# Altium integrated library 6913211000xx.IntLib: 24 symbols
Pins are listed as number, name and electrical type; pins without a type are passive.

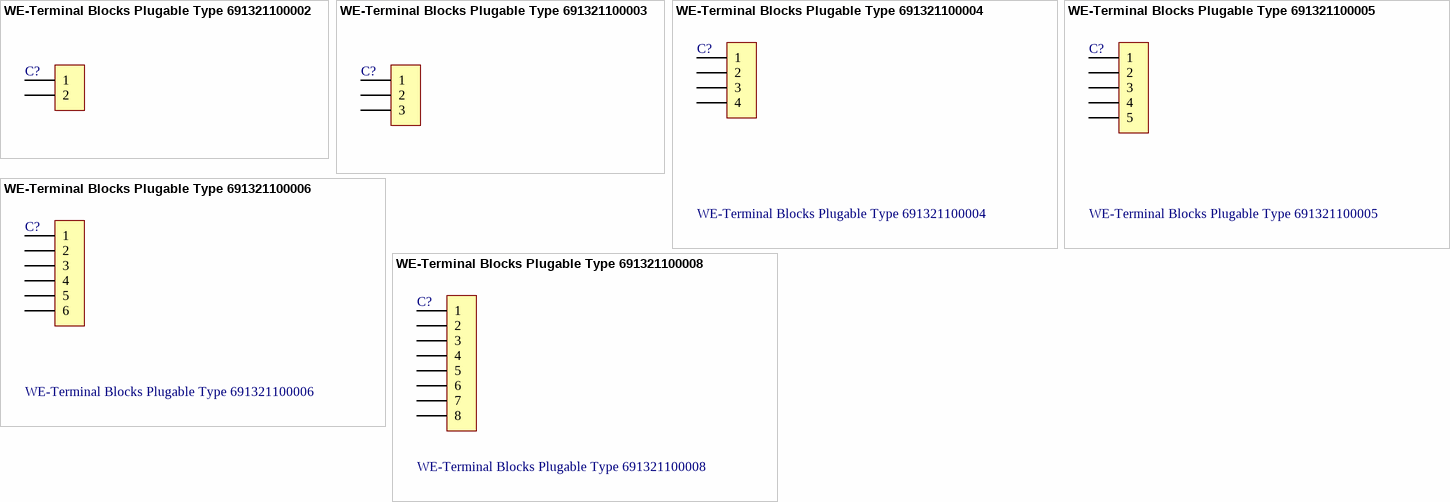
[diagram p0: symbols WE-Terminal Blocks Plugable Type 691321100002 to WE-Terminal Blocks Plugable Type 691321100008]

## WE-Terminal Blocks Plugable Type 691321100002
designator C?
WR-TBL Terminal block - serie 3211 - 3.50 mm; Manufacturer: Würth Elektronik eiSos GmbH; ComponentLink1 Description: Manufacturer; ComponentLink2 Description: Datasheet; NoPins: 2; Created Date: 9 December 2013; partNo: 691321100002; ComponentLink1URL: http://www.we-online.com; ComponentLink2URL: http://katalog.we-online.de/em/datasheet/6913211000xx.pdf; Created by: Karrer Zheng
footprint 691321100002 (3,50mm - PCB Vertical - 02p)
pins: 1, 2

## WE-Terminal Blocks Plugable Type 691321100003
designator C?
WR-TBL Terminal block - serie 3211 - 3.50 mm; Manufacturer: Würth Elektronik eiSos GmbH; ComponentLink1 Description: Manufacturer; ComponentLink2 Description: Datasheet; NoPins: 3; Created Date: 9 December 2013; partNo: 691321100003; ComponentLink1URL: http://www.we-online.com; ComponentLink2URL: http://katalog.we-online.de/em/datasheet/6913211000xx.pdf; Created by: Karrer Zheng
footprint 691321100003 (3,50mm - PCB Vertical - 03p)
pins: 1, 2, 3

## WE-Terminal Blocks Plugable Type 691321100004
designator C?
WR-TBL Terminal block - serie 3211 - 3.50 mm; Manufacturer: Würth Elektronik eiSos GmbH; ComponentLink1 Description: Manufacturer; ComponentLink2 Description: Datasheet; NoPins: 4; Created Date: 9 December 2013; partNo: 691321100004; ComponentLink1URL: http://www.we-online.com; ComponentLink2URL: http://katalog.we-online.de/em/datasheet/6913211000xx.pdf; Created by: Karrer Zheng
footprint 691321100004 (3,50mm - PCB Vertical - 04p)
pins: 1, 2, 3, 4

## WE-Terminal Blocks Plugable Type 691321100005
designator C?
WR-TBL Terminal block - serie 3211 - 3.50 mm; Manufacturer: Würth Elektronik eiSos GmbH; ComponentLink1 Description: Manufacturer; ComponentLink2 Description: Datasheet; NoPins: 5; Created Date: 9 December 2013; partNo: 691321100005; ComponentLink1URL: http://www.we-online.com; ComponentLink2URL: http://katalog.we-online.de/em/datasheet/6913211000xx.pdf; Created by: Karrer Zheng
footprint 691321100005 (3,50mm - PCB Vertical - 05p)
pins: 1, 2, 3, 4, 5

## WE-Terminal Blocks Plugable Type 691321100006
designator C?
WR-TBL Terminal block - serie 3211 - 3.50 mm; Manufacturer: Würth Elektronik eiSos GmbH; ComponentLink1 Description: Manufacturer; ComponentLink2 Description: Datasheet; NoPins: 6; Created Date: 9 December 2013; partNo: 691321100006; ComponentLink1URL: http://www.we-online.com; ComponentLink2URL: http://katalog.we-online.de/em/datasheet/6913211000xx.pdf; Created by: Karrer Zheng
footprint 691321100006 (3,50mm - PCB Vertical - 06p)
pins: 1, 2, 3, 4, 5, 6

## WE-Terminal Blocks Plugable Type 691321100008
designator C?
WR-TBL Terminal block - serie 3211 - 3.50 mm; Manufacturer: Würth Elektronik eiSos GmbH; ComponentLink1 Description: Manufacturer; ComponentLink2 Description: Datasheet; NoPins: 8; Created Date: 9 December 2013; partNo: 691321100008; ComponentLink1URL: http://www.we-online.com; ComponentLink2URL: http://katalog.we-online.de/em/datasheet/6913211000xx.pdf; Created by: Karrer Zheng
footprint 691321100008 (3,50mm - PCB Vertical - 08p)
pins: 1, 2, 3, 4, 5, 6, 7, 8


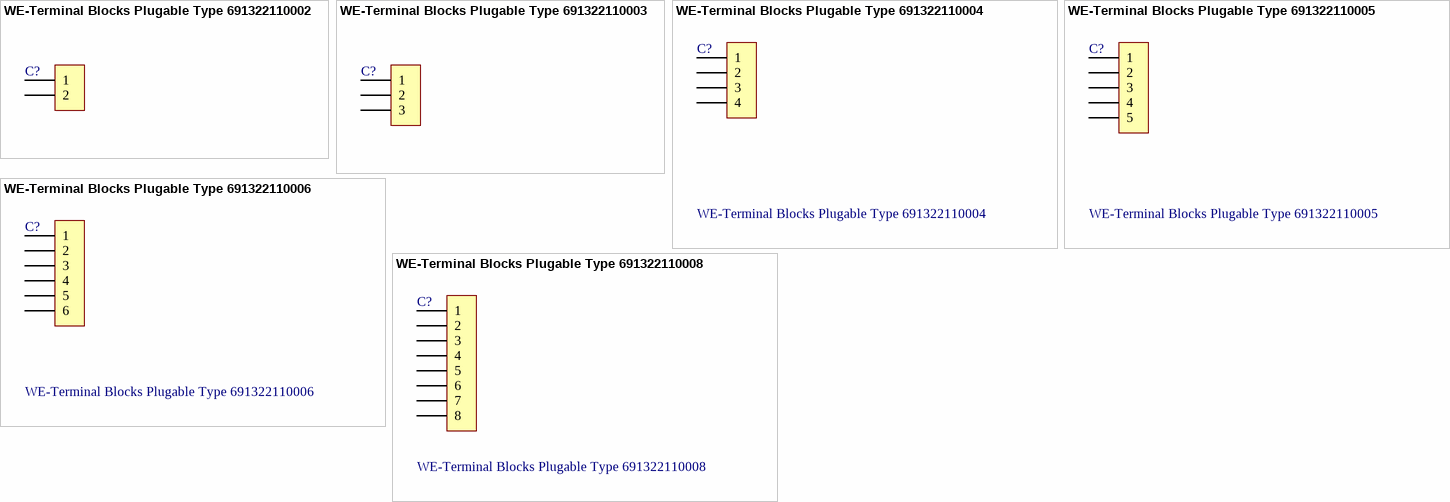
[diagram p1: symbols WE-Terminal Blocks Plugable Type 691322110002 to WE-Terminal Blocks Plugable Type 691322110008]

## WE-Terminal Blocks Plugable Type 691322110002
designator C?
WR-TBL Terminal block - serie 3221 - 3.50 mm; Manufacturer: Würth Elektronik eiSos GmbH; ComponentLink1 Description: Manufacturer; ComponentLink2 Description: Datasheet; NoPins: 2; Created Date: 9 December 2013; partNo: 691322110002; ComponentLink1URL: http://www.we-online.com; ComponentLink2URL: http://katalog.we-online.de/em/datasheet/6913221100xx.pdf; Created by: Karrer Zheng
footprint 691322110002 (3,50mm - PCB Horizontal - 02p)
pins: 1, 2

## WE-Terminal Blocks Plugable Type 691322110003
designator C?
WR-TBL Terminal block - serie 3221 - 3.50 mm; Manufacturer: Würth Elektronik eiSos GmbH; ComponentLink1 Description: Manufacturer; ComponentLink2 Description: Datasheet; NoPins: 3; Created Date: 9 December 2013; partNo: 691322110003; ComponentLink1URL: http://www.we-online.com; ComponentLink2URL: http://katalog.we-online.de/em/datasheet/6913221100xx.pdf; Created by: Karrer Zheng
footprint 691322110003 (3,50mm - PCB Horizontal - 03p)
pins: 1, 2, 3

## WE-Terminal Blocks Plugable Type 691322110004
designator C?
WR-TBL Terminal block - serie 3221 - 3.50 mm; Manufacturer: Würth Elektronik eiSos GmbH; ComponentLink1 Description: Manufacturer; ComponentLink2 Description: Datasheet; NoPins: 4; Created Date: 9 December 2013; partNo: 691322110004; ComponentLink1URL: http://www.we-online.com; ComponentLink2URL: http://katalog.we-online.de/em/datasheet/6913221100xx.pdf; Created by: Karrer Zheng
footprint 691322110004 (3,50mm - PCB Horizontal - 04p)
pins: 1, 2, 3, 4

## WE-Terminal Blocks Plugable Type 691322110005
designator C?
WR-TBL Terminal block - serie 3221 - 3.50 mm; Manufacturer: Würth Elektronik eiSos GmbH; ComponentLink1 Description: Manufacturer; ComponentLink2 Description: Datasheet; NoPins: 5; Created Date: 9 December 2013; partNo: 691322110005; ComponentLink1URL: http://www.we-online.com; ComponentLink2URL: http://katalog.we-online.de/em/datasheet/6913221100xx.pdf; Created by: Karrer Zheng
footprint 691322110005 (3,50mm - PCB Horizontal - 05p)
pins: 1, 2, 3, 4, 5

## WE-Terminal Blocks Plugable Type 691322110006
designator C?
WR-TBL Terminal block - serie 3221 - 3.50 mm; Manufacturer: Würth Elektronik eiSos GmbH; ComponentLink1 Description: Manufacturer; ComponentLink2 Description: Datasheet; NoPins: 6; Created Date: 9 December 2013; partNo: 691322110006; ComponentLink1URL: http://www.we-online.com; ComponentLink2URL: http://katalog.we-online.de/em/datasheet/6913221100xx.pdf; Created by: Karrer Zheng
footprint 691322110006 (3,50mm - PCB Horizontal - 06p)
pins: 1, 2, 3, 4, 5, 6

## WE-Terminal Blocks Plugable Type 691322110008
designator C?
WR-TBL Terminal block - serie 3221 - 3.50 mm; Manufacturer: Würth Elektronik eiSos GmbH; ComponentLink1 Description: Manufacturer; ComponentLink2 Description: Datasheet; NoPins: 8; Created Date: 9 December 2013; partNo: 691322110008; ComponentLink1URL: http://www.we-online.com; ComponentLink2URL: http://katalog.we-online.de/em/datasheet/6913221100xx.pdf; Created by: Karrer Zheng
footprint 691322110008 (3,50mm - PCB Horizontal - 08p)
pins: 1, 2, 3, 4, 5, 6, 7, 8


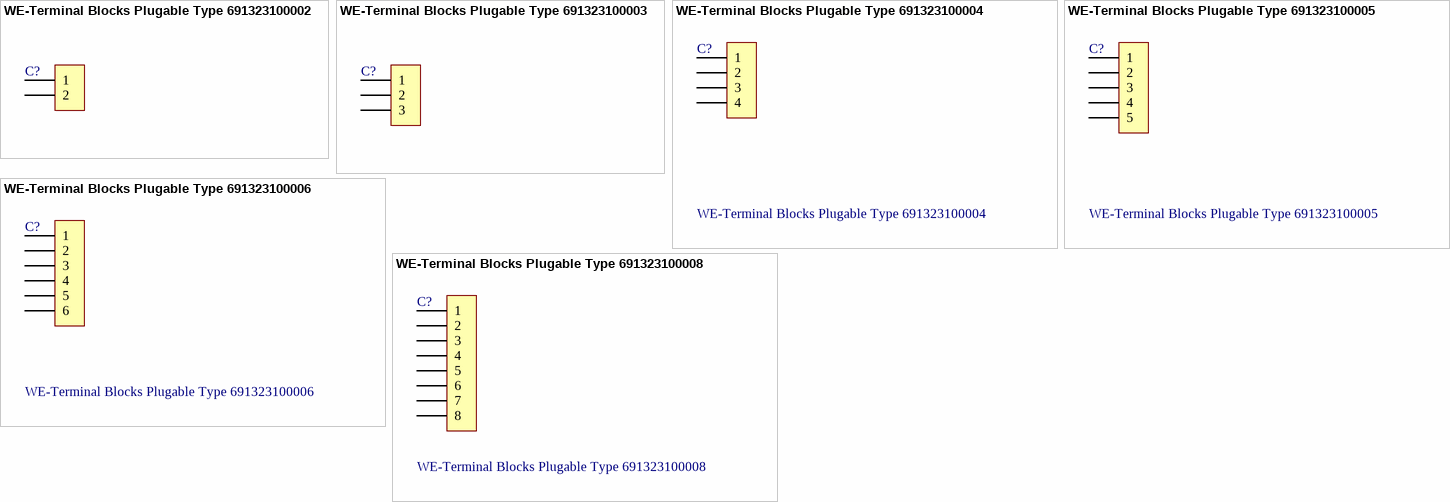
[diagram p2: symbols WE-Terminal Blocks Plugable Type 691323100002 to WE-Terminal Blocks Plugable Type 691323100008]

## WE-Terminal Blocks Plugable Type 691323100002
designator C?
WR-TBL Terminal block - serie 3231 - 3.50 mm; Manufacturer: Würth Elektronik eiSos GmbH; ComponentLink1 Description: Manufacturer; ComponentLink2 Description: Datasheet; NoPins: 2; Created Date: 9 December 2013; partNo: 691323100002; ComponentLink1URL: http://www.we-online.com; ComponentLink2URL: http://katalog.we-online.de/em/datasheet/6913231000xx.pdf; Created by: Karrer Zheng
footprint 691323100002 (3,50mm - Vertical PCB Header with Flanges - 02p)
pins: 1, 2

## WE-Terminal Blocks Plugable Type 691323100003
designator C?
WR-TBL Terminal block - serie 3231 - 3.50 mm; Manufacturer: Würth Elektronik eiSos GmbH; ComponentLink1 Description: Manufacturer; ComponentLink2 Description: Datasheet; NoPins: 3; Created Date: 9 December 2013; partNo: 691323100003; ComponentLink1URL: http://www.we-online.com; ComponentLink2URL: http://katalog.we-online.de/em/datasheet/6913231000xx.pdf; Created by: Karrer Zheng
footprint 691323100003 (3,50mm - Vertical PCB Header with Flanges - 03p)
pins: 1, 2, 3

## WE-Terminal Blocks Plugable Type 691323100004
designator C?
WR-TBL Terminal block - serie 3231 - 3.50 mm; Manufacturer: Würth Elektronik eiSos GmbH; ComponentLink1 Description: Manufacturer; ComponentLink2 Description: Datasheet; NoPins: 4; Created Date: 9 December 2013; partNo: 691323100004; ComponentLink1URL: http://www.we-online.com; ComponentLink2URL: http://katalog.we-online.de/em/datasheet/6913231000xx.pdf; Created by: Karrer Zheng
footprint 691323100004 (3,50mm - Vertical PCB Header with Flanges - 04p)
pins: 1, 2, 3, 4

## WE-Terminal Blocks Plugable Type 691323100005
designator C?
WR-TBL Terminal block - serie 3231 - 3.50 mm; Manufacturer: Würth Elektronik eiSos GmbH; ComponentLink1 Description: Manufacturer; ComponentLink2 Description: Datasheet; NoPins: 5; Created Date: 9 December 2013; partNo: 691323100005; ComponentLink1URL: http://www.we-online.com; ComponentLink2URL: http://katalog.we-online.de/em/datasheet/6913231000xx.pdf; Created by: Karrer Zheng
footprint 691323100005 (3,50mm - Vertical PCB Header with Flanges - 05p)
pins: 1, 2, 3, 4, 5

## WE-Terminal Blocks Plugable Type 691323100006
designator C?
WR-TBL Terminal block - serie 3231 - 3.50 mm; Manufacturer: Würth Elektronik eiSos GmbH; ComponentLink1 Description: Manufacturer; ComponentLink2 Description: Datasheet; NoPins: 6; Created Date: 9 December 2013; partNo: 691323100006; ComponentLink1URL: http://www.we-online.com; ComponentLink2URL: http://katalog.we-online.de/em/datasheet/6913231000xx.pdf; Created by: Karrer Zheng
footprint 691323100006 (3,50mm - Vertical PCB Header with Flanges - 06p)
pins: 1, 2, 3, 4, 5, 6

## WE-Terminal Blocks Plugable Type 691323100008
designator C?
WR-TBL Terminal block - serie 3231 - 3.50 mm; Manufacturer: Würth Elektronik eiSos GmbH; ComponentLink1 Description: Manufacturer; ComponentLink2 Description: Datasheet; NoPins: 8; Created Date: 9 December 2013; partNo: 691323100008; ComponentLink1URL: http://www.we-online.com; ComponentLink2URL: http://katalog.we-online.de/em/datasheet/6913231000xx.pdf; Created by: Karrer Zheng
footprint 691323100008 (3,50mm - Vertical PCB Header with Flanges - 08p)
pins: 1, 2, 3, 4, 5, 6, 7, 8


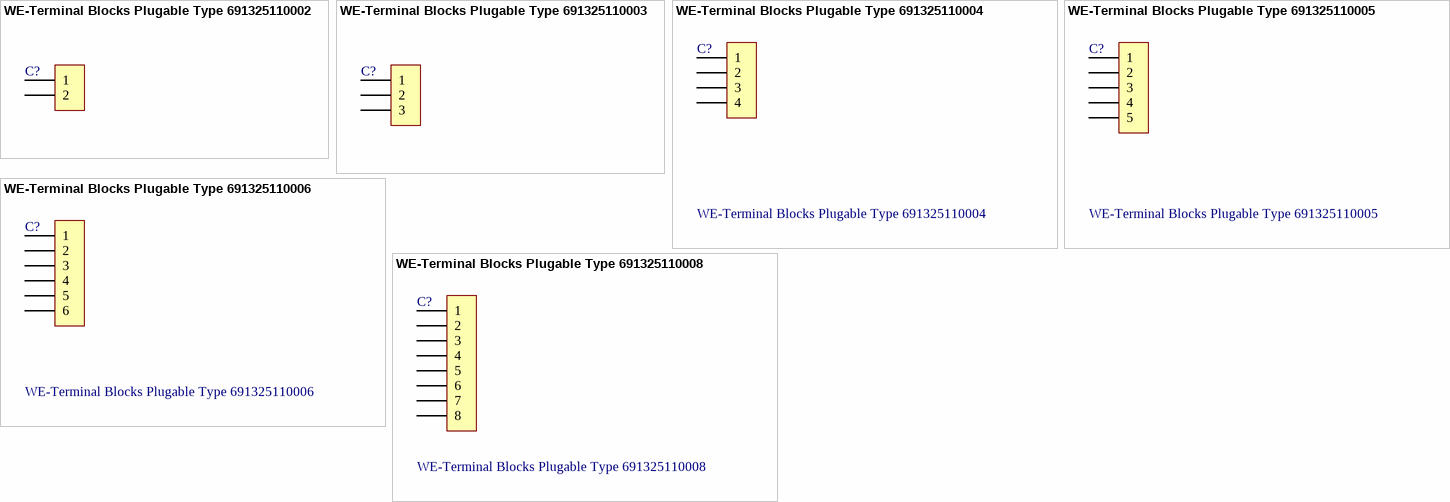
[diagram p3: symbols WE-Terminal Blocks Plugable Type 691325110002 to WE-Terminal Blocks Plugable Type 691325110008]

## WE-Terminal Blocks Plugable Type 691325110002
designator C?
WR-TBL Terminal block - serie 3251 - 3.50 mm; Manufacturer: Würth Elektronik eiSos GmbH; ComponentLink1 Description: Manufacturer; ComponentLink2 Description: Datasheet; NoPins: 2; Created Date: 10 December 2013; partNo: 691325110002; ComponentLink1URL: http://www.we-online.com; ComponentLink2URL: http://katalog.we-online.de/em/datasheet/6913251100xx.pdf; Created by: Karrer Zheng
footprint 691325110002 (3,50mm - PCB Horizontal With flanges - 02p)
pins: 1, 2

## WE-Terminal Blocks Plugable Type 691325110003
designator C?
WR-TBL Terminal block - serie 3251 - 3.50 mm; Manufacturer: Würth Elektronik eiSos GmbH; ComponentLink1 Description: Manufacturer; ComponentLink2 Description: Datasheet; NoPins: 3; Created Date: 10 December 2013; partNo: 691325110003; ComponentLink1URL: http://www.we-online.com; ComponentLink2URL: http://katalog.we-online.de/em/datasheet/6913251100xx.pdf; Created by: Karrer Zheng
footprint 691325110003 (3,50mm - PCB Horizontal With flanges - 03p)
pins: 1, 2, 3

## WE-Terminal Blocks Plugable Type 691325110004
designator C?
WR-TBL Terminal block - serie 3251 - 3.50 mm; Manufacturer: Würth Elektronik eiSos GmbH; ComponentLink1 Description: Manufacturer; ComponentLink2 Description: Datasheet; NoPins: 4; Created Date: 10 December 2013; partNo: 691325110004; ComponentLink1URL: http://www.we-online.com; ComponentLink2URL: http://katalog.we-online.de/em/datasheet/6913251100xx.pdf; Created by: Karrer Zheng
footprint 691325110004 (3,50mm - PCB Horizontal With flanges - 04p)
pins: 1, 2, 3, 4

## WE-Terminal Blocks Plugable Type 691325110005
designator C?
WR-TBL Terminal block - serie 3251 - 3.50 mm; Manufacturer: Würth Elektronik eiSos GmbH; ComponentLink1 Description: Manufacturer; ComponentLink2 Description: Datasheet; NoPins: 5; Created Date: 10 December 2013; partNo: 691325110005; ComponentLink1URL: http://www.we-online.com; ComponentLink2URL: http://katalog.we-online.de/em/datasheet/6913251100xx.pdf; Created by: Karrer Zheng
footprint 691325110005 (3,50mm - PCB Horizontal With flanges - 05p)
pins: 1, 2, 3, 4, 5

## WE-Terminal Blocks Plugable Type 691325110006
designator C?
WR-TBL Terminal block - serie 3251 - 3.50 mm; Manufacturer: Würth Elektronik eiSos GmbH; ComponentLink1 Description: Manufacturer; ComponentLink2 Description: Datasheet; NoPins: 6; Created Date: 10 December 2013; partNo: 691325110006; ComponentLink1URL: http://www.we-online.com; ComponentLink2URL: http://katalog.we-online.de/em/datasheet/6913251100xx.pdf; Created by: Karrer Zheng
footprint 691325110006 (3,50mm - PCB Horizontal With flanges - 06p)
pins: 1, 2, 3, 4, 5, 6

## WE-Terminal Blocks Plugable Type 691325110008
designator C?
WR-TBL Terminal block - serie 3251 - 3.50 mm; Manufacturer: Würth Elektronik eiSos GmbH; ComponentLink1 Description: Manufacturer; ComponentLink2 Description: Datasheet; NoPins: 8; Created Date: 10 December 2013; partNo: 691325110008; ComponentLink1URL: http://www.we-online.com; ComponentLink2URL: http://katalog.we-online.de/em/datasheet/6913251100xx.pdf; Created by: Karrer Zheng
footprint 691325110008 (3,50mm - PCB Horizontal With flanges - 08p)
pins: 1, 2, 3, 4, 5, 6, 7, 8